# Altium footprint library my_lib.PcbLib: 36 footprints (part 1 of 3)
Each footprint in its own frame and in the unit in brackets; x right, y up, seen from the top. Pads: shape width x height; smd on the part's side, far side on the other; paste and mask are expansions set on the pad; w line width, h text height; cw(c..) or ccw(c..) is an arc to the next point about the centre after c.
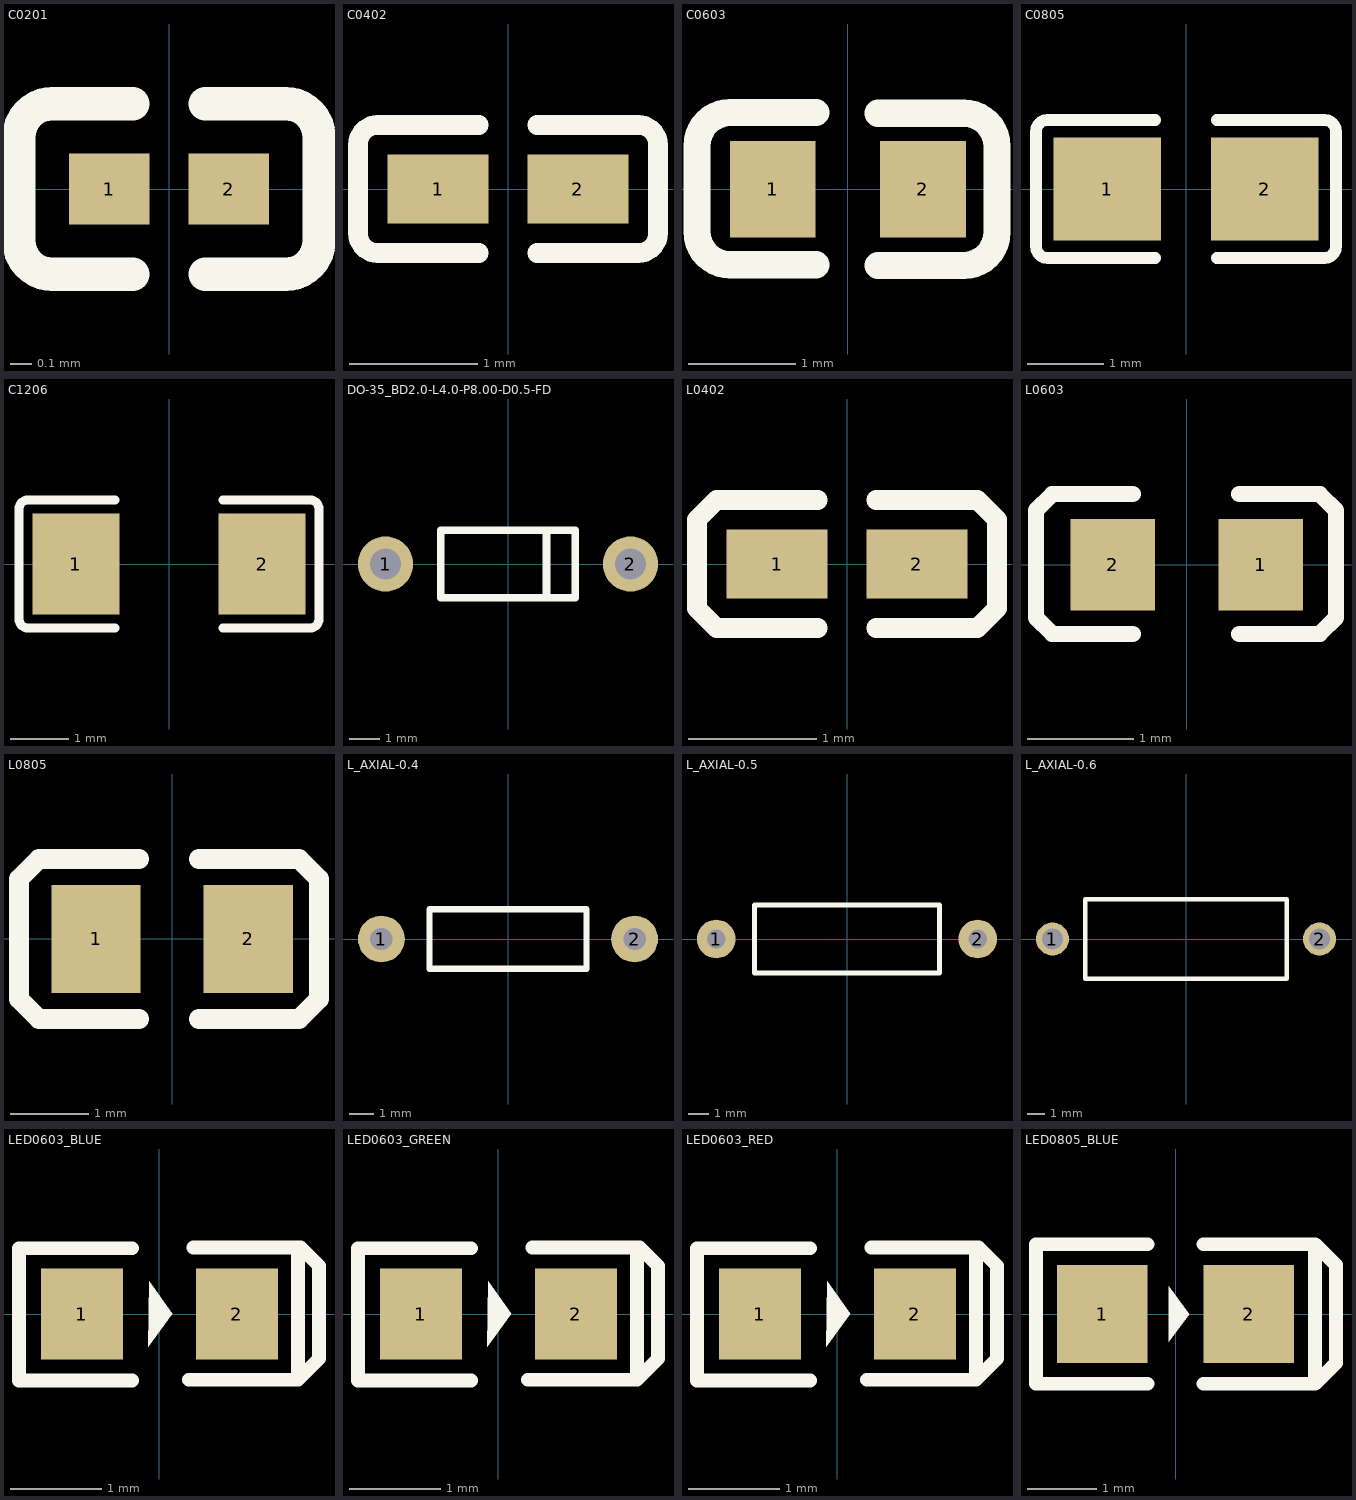
[diagram p0: the footprints below, top view; thin cyan lines are the x and y axes]

## C0201 [mm]
pads (2):
  rect 0.368x0.324 smd: 1(-0.274,0) 2(0.274,0)
Top Overlay:
  lines w0.152: -0.166,-0.391 -0.535,-0.391 cw(c-0.535,-0.238) -0.687,-0.238 -0.687,0.238 cw(c-0.535,0.238) -0.535,0.391 -0.166,0.391 ; 0.166,-0.391 0.535,-0.391 ccw(c0.535,-0.238) 0.687,-0.238 0.687,0.238 ccw(c0.535,0.238) 0.535,0.391 0.166,0.391
Top Paste:
  region: -0.081,-0.138 -0.081,0.138 -0.105,0.162 -0.434,0.162 -0.458,0.138 -0.458,-0.138 -0.434,-0.162 -0.105,-0.162
  region: 0.081,-0.138 0.081,0.138 0.105,0.162 0.434,0.162 0.458,0.138 0.458,-0.138 0.434,-0.162 0.105,-0.162

## C0402 [mm]
pads (2):
  rect 0.79x0.54 smd: 1(-0.545,0) 2(0.545,0)
Top Overlay:
  lines w0.152: -0.226,-0.499 -1.016,-0.499 cw(c-1.016,-0.346) -1.169,-0.346 -1.169,0.346 cw(c-1.016,0.346) -1.016,0.499 -0.226,0.499 ; 0.226,-0.499 1.016,-0.499 ccw(c1.016,-0.346) 1.169,-0.346 1.169,0.346 ccw(c1.016,0.346) 1.016,0.499 0.226,0.499
Top Paste:
  region: -0.18,0.225 -0.18,-0.225 -0.25,-0.275 -0.73,-0.275 -0.78,-0.225 -0.78,0.225 -0.73,0.275 -0.25,0.275
  region: 0.78,0.225 0.78,-0.225 0.73,-0.275 0.25,-0.275 0.18,-0.225 0.18,0.225 0.25,0.275 0.73,0.275

## C0603 [mm]
pads (2):
  rect 0.8x0.9 smd: 1(-0.7,0) 2(0.7,0)
Top Overlay:
  lines w0.254: -0.296,-0.704 -1.096,-0.704 cw(c-1.096,-0.394) -1.406,-0.394 -1.405,0.406 cw(c-1.096,0.406) -1.096,0.715 -0.296,0.715 ; 0.28,-0.71 1.08,-0.71 ccw(c1.08,-0.4) 1.39,-0.4 1.39,0.4 ccw(c1.08,0.4) 1.08,0.71 0.28,0.71

## C0805 [mm]
pads (2):
  rect 1.41x1.35 smd: 1(-1.03,0) 2(1.03,0)
Top Overlay:
  lines w0.152: -0.401,-0.904 -1.811,-0.904 cw(c-1.811,-0.751) -1.964,-0.751 -1.964,0.751 cw(c-1.811,0.751) -1.811,0.904 -0.401,0.904 ; 0.401,-0.904 1.811,-0.904 ccw(c1.811,-0.751) 1.964,-0.751 1.964,0.751 ccw(c1.811,0.751) 1.811,0.904 0.401,0.904
Top Paste:
  region: 0.475,-0.62 0.475,-0.2 0.92,-0.2 0.92,0.25 0.48,0.25 0.475,0.66 0.525,0.71 1.675,0.71 1.725,0.66 1.725,-0.62 1.675,-0.67 0.525,-0.67
  region: -1.675,-0.62 -1.675,0.66 -1.625,0.71 -0.475,0.71 -0.425,0.66 -0.42,0.25 -0.87,0.25 -0.87,-0.2 -0.43,-0.2 -0.425,-0.62 -0.475,-0.67 -1.625,-0.67

## C1206 [mm]
pads (2):
  rect 1.485x1.728 smd: 1(-1.593,0) 2(1.593,0)
Top Overlay:
  lines w0.152: -0.926,-1.093 -2.411,-1.093 cw(c-2.411,-0.94) -2.564,-0.94 -2.564,0.94 cw(c-2.411,0.94) -2.411,1.093 -0.926,1.093 ; 0.926,-1.093 2.411,-1.093 ccw(c2.411,-0.94) 2.564,-0.94 2.564,0.94 ccw(c2.411,0.94) 2.411,1.093 0.926,1.093
Top Paste:
  region: -0.85,-0.764 -0.85,-0.394 -0.95,-0.294 -1.255,-0.294 -1.355,-0.194 -1.355,0.194 -1.255,0.294 -0.95,0.294 -0.85,0.394 -0.85,0.764 -0.95,0.864 -2.235,0.864 -2.335,0.764 -2.335,-0.764 -2.235,-0.864 -0.95,-0.864
  region: 0.85,-0.764 0.85,-0.394 0.95,-0.294 1.255,-0.294 1.355,-0.194 1.355,0.194 1.255,0.294 0.95,0.294 0.85,0.394 0.85,0.764 0.95,0.864 2.235,0.864 2.335,0.764 2.335,-0.764 2.235,-0.864 0.95,-0.864

## DO-35_BD2.0-L4.0-P8.00-D0.5-FD [mm]
pads (2):
  round 1.8 hole 1: 1(-4,0) 2(4,0)
Top Overlay:
  lines w0.254: 1.261,-1.1 1.261,1.1 ; -2.2,-1.1 -2.2,1.1 2.2,1.1 2.2,-1.1 -2.2,-1.1

## L0402 [mm]
pads (2):
  rect 0.79x0.54 smd: 1(-0.545,0) 2(0.545,0)
Top Overlay:
  lines w0.152: -0.226,-0.499 -1.016,-0.499 -1.169,-0.346 -1.169,0.346 -1.016,0.499 -0.226,0.499 ; 0.226,-0.499 1.016,-0.499 1.169,-0.346 1.169,0.346 1.016,0.499 0.226,0.499
Top Paste:
  region: 0.135,-0.086 0.135,0.086 0.404,0.27 0.9,0.27 0.94,0.23 0.94,-0.23 0.9,-0.27 0.404,-0.27
  region: -0.135,-0.086 -0.135,0.086 -0.404,0.27 -0.9,0.27 -0.94,0.23 -0.94,-0.23 -0.9,-0.27 -0.404,-0.27

## L0603 [mm]
pads (2):
  rect 0.8x0.864 smd: 1(0.7,0) 2(-0.7,0)
Top Overlay:
  lines w0.152: -0.51,-0.651 -1.272,-0.651 -1.424,-0.499 -1.424,0.517 -1.272,0.67 -0.51,0.67 ; 0.496,-0.651 1.258,-0.651 1.411,-0.499 1.411,0.517 1.258,0.67 0.496,0.67
Top Paste:
  region: -0.252,0.143 -0.252,-0.134 -0.526,-0.427 -1.029,-0.427 -1.093,-0.363 -1.093,0.373 -1.029,0.437 -0.526,0.437
  region: 0.264,0.154 0.264,-0.122 0.538,-0.416 1.042,-0.416 1.106,-0.352 1.106,0.384 1.042,0.448 0.538,0.448

## L0805 [mm]
pads (2):
  rect 1.133x1.377 smd: 1(-0.966,0) 2(0.966,0)
Top Overlay:
  lines w0.254: -0.421,-1.016 -1.691,-1.016 -1.945,-0.762 -1.945,-0.635 -1.945,0.762 -1.691,1.016 -1.564,1.016 -0.421,1.016 ; 0.341,-1.016 1.484,-1.016 1.611,-1.016 1.865,-0.762 1.865,0.635 1.865,0.762 1.611,1.016 0.341,1.016
Top Paste:
  region: -0.36,-0.22 -0.36,0.22 -0.745,0.688 -1.433,0.688 -1.533,0.588 -1.533,-0.589 -1.433,-0.689 -0.745,-0.689
  region: 0.36,-0.22 0.36,0.22 0.745,0.688 1.433,0.688 1.533,0.588 1.533,-0.589 1.433,-0.689 0.745,-0.689

## L_AXIAL-0.4 [mil]
pads (2):
  round 74 hole 35.4: 1(-200,0) 2(200,0)
Top Overlay:
  lines w10: -124,-47 -124,47 124,47 124,-47 -124,-47

## L_AXIAL-0.5 [mil]
pads (2):
  round 74 hole 35.4: 1(-250,0) 2(250,0)
Top Overlay:
  lines w10: -177,-65 177,-65 177,65 -177,65 -177,-65

## L_AXIAL-0.6 [mil]
pads (2):
  round 74 hole 47.2: 1(-300,0) 2(300,0)
Top Overlay:
  lines w10: -226,-89 226,-89 226,89 -226,89 -226,-89

## LED0603_BLUE [mm]
pads (2):
  rect 0.9x1 smd: 1(-0.85,0) 2(0.85,0)
Top Overlay:
  region: -0.11,0.36 -0.12,-0.36 0.14,0
  lines w0.15: -0.3,-0.73 -1.54,-0.73 -1.54,0.72 -0.3,0.72 ; 0.32,-0.72 1.52,-0.72 ; 0.37,0.73 1.52,0.73 ; 1.52,-0.72 1.72,-0.52 1.75,-0.49 1.75,0.53 1.55,0.73 1.52,0.73 ; 1.52,-0.72 1.52,0.73

## LED0603_GREEN [mm]
pads (2):
  rect 0.9x1 smd: 1(-0.85,0) 2(0.85,0)
Top Overlay:
  region: -0.11,0.36 -0.12,-0.36 0.14,0
  lines w0.15: -0.3,-0.73 -1.54,-0.73 -1.54,0.72 -0.3,0.72 ; 0.32,-0.72 1.52,-0.72 ; 0.37,0.73 1.52,0.73 ; 1.52,-0.72 1.72,-0.52 1.75,-0.49 1.75,0.53 1.55,0.73 1.52,0.73 ; 1.52,-0.72 1.52,0.73

## LED0603_RED [mm]
pads (2):
  rect 0.9x1 smd: 1(-0.85,0) 2(0.85,0)
Top Overlay:
  region: -0.11,0.36 -0.12,-0.36 0.14,0
  lines w0.15: -0.3,-0.73 -1.54,-0.73 -1.54,0.72 -0.3,0.72 ; 0.32,-0.72 1.52,-0.72 ; 0.37,0.73 1.52,0.73 ; 1.52,-0.72 1.72,-0.52 1.75,-0.49 1.75,0.53 1.55,0.73 1.52,0.73 ; 1.52,-0.72 1.52,0.73

## LED0805_BLUE [mm]
pads (2):
  rect 1.3x1.4 smd: 1(-1.05,0) 2(1.05,0)
Top Overlay:
  region: -0.1,0.4 -0.1,-0.4 0.2,0
  lines w0.2: -0.4,-1 -2,-1 -2,1 -0.4,1 ; 0.4,-1 2,-1 ; 0.4,1 2,1 ; 2,-1 2.3,-0.7 2.3,0.7 2,1 ; 2,-1 2,1